# Altium integrated library Capacitor - Tantalum.IntLib: 113 symbols (part 2 of 2)
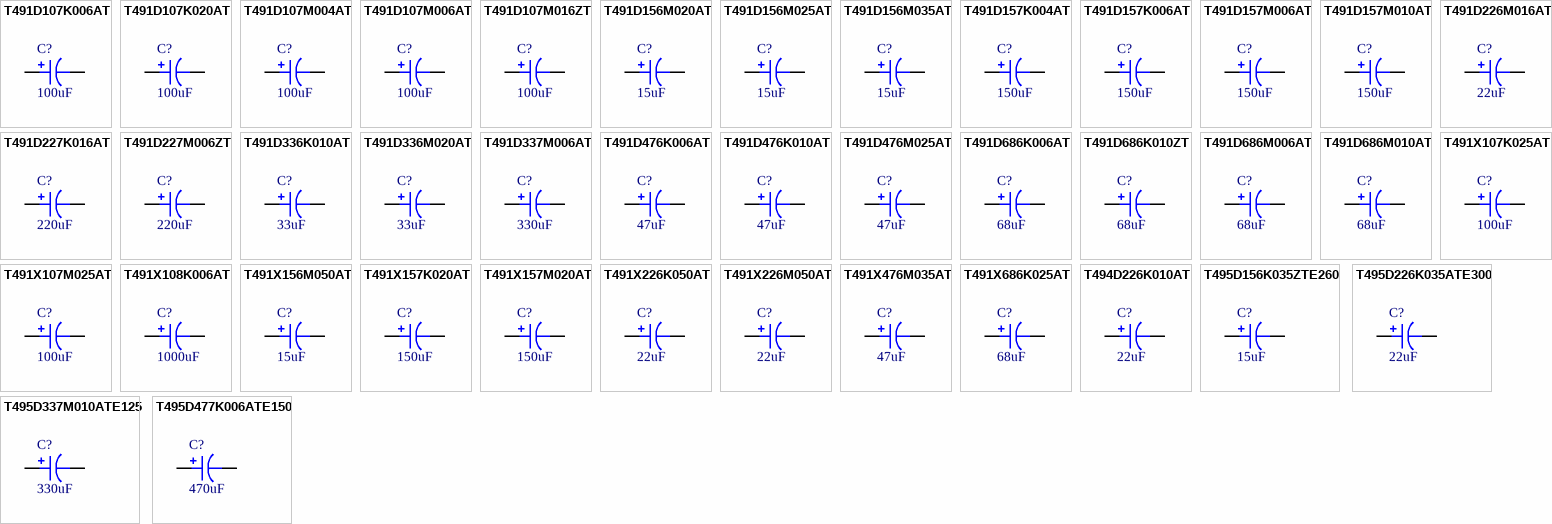
[diagram p3: symbols T491D107K006AT to T495D477K006ATE150]

## T495D156K035ZTE260
designator C?, comment 15uF
CAP TANT 15UF 35V 10% 2917; Part Number: T495D156K035ZTE260; Manufacturer: Kemet; TemperatureRange: -55C ~ 125C; Type: General Purpose; Value: 15uF; PartId: 6901; Supplier 1: Digi-Key; Supplier Part Number 1: 495-1580-2-ND; ComponentLink1Description: Datasheet; ComponentLink1URL: http://www.kemet.com/docfinder?Partnumber=T495D156K025AHE275; ComponentLink2Description: Digi-Key listing; ComponentLink2URL: http://digikey.com/product-detail/en/T495D156K035ZTE260/495-1580-2-ND/672344; Tolerance: 10%; Voltage: 35V; Price: 0.509; Device Package: 2917 (7343 Metric)
footprint CAP POL 2917/7343
pins: 1, 2

## T495D226K035ATE300
designator C?, comment 22uF
CAP TANT 22UF 35V 10% 2917; Part Number: T495D226K035ATE300; Manufacturer: Kemet; TemperatureRange: -55C ~ 125C; Type: General Purpose; Value: 22uF; PartId: 6912; Supplier 1: Digi-Key; Supplier Part Number 1: 399-3880-2-ND; ComponentLink1Description: Datasheet; ComponentLink1URL: http://www.kemet.com/docfinder?Partnumber=T495D226K035ATE300; ComponentLink2Description: Digi-Key listing; ComponentLink2URL: http://digikey.com/product-detail/en/T495D226K035ATE300/399-3880-2-ND/818740; Tolerance: 10%; Voltage: 35V; Price: 0.6169; Device Package: 2917 (7343 Metric)
footprint CAP POL 2917/7343
pins: 1, 2

## T495D337M010ATE125
designator C?, comment 330uF
CAP TANT 330UF 10V 20% 2917; Part Number: T495D337M010ATE125; Manufacturer: Kemet; TemperatureRange: -55C ~ 125C; Type: General Purpose; Value: 330uF; PartId: 6937; Supplier 1: Digi-Key; Supplier Part Number 1: 399-9768-2-ND; ComponentLink1Description: Datasheet; ComponentLink1URL: http://www.kemet.com/docfinder?Partnumber=T495D337M010ATE100; ComponentLink2Description: Digi-Key listing; ComponentLink2URL: http://digikey.com/product-detail/en/T495D337M010ATE125/399-9768-2-ND/3724932; Tolerance: 20%; Voltage: 10V; Price: 1.1938; Device Package: 2917 (7343 Metric)
footprint CAP POL 2917/7343
pins: 1, 2

## T495D477K006ATE150
designator C?, comment 470uF
CAP TANT 470UF 10% 6.3V 2917; Part Number: T495D477K006ATE150; Manufacturer: Kemet; TemperatureRange: -55C ~ 125C; Type: General Purpose; Value: 470uF; PartId: 6938; Supplier 1: Digi-Key; Supplier Part Number 1: 399-11093-2-ND; ComponentLink1Description: Datasheet; ComponentLink1URL: http://www.kemet.com/docfinder?Partnumber=T495D477K006ATE150; ComponentLink2Description: Digi-Key listing; ComponentLink2URL: http://digikey.com/product-detail/en/T495D477K006ATE150/399-11093-2-ND/4309256; Tolerance: 10%; Voltage: 6.3V; Price: 1.2065; Device Package: 2917 (7343 Metric)
footprint CAP POL 2917/7343
pins: 1, 2

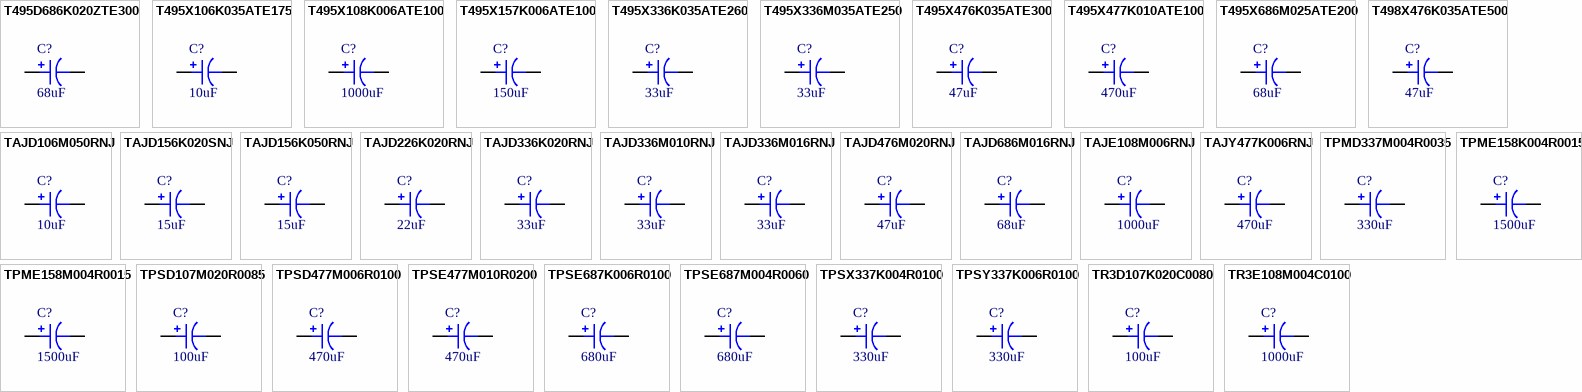
[diagram p2: symbols T495D686K020ZTE300 to TR3E108M004C0100]

## T495D686K020ZTE300
designator C?, comment 68uF
CAP TANT 68UF 20V 10% 2917; Part Number: T495D686K020ZTE300; Manufacturer: Kemet; TemperatureRange: -55C ~ 125C; Type: General Purpose; Value: 68uF; PartId: 6909; Supplier 1: Digi-Key; Supplier Part Number 1: 495-1561-2-ND; ComponentLink1Description: Datasheet; ComponentLink1URL: http://www.kemet.com/docfinder?Partnumber=T495D686K025ATE200; ComponentLink2Description: Digi-Key listing; ComponentLink2URL: http://digikey.com/product-detail/en/T495D686K020ZTE300/495-1561-2-ND/672325; Tolerance: 10%; Voltage: 20V; Price: 0.5938; Device Package: 2917 (7343 Metric)
footprint CAP POL 2917/7343
pins: 1, 2

## T495X106K035ATE175
designator C?, comment 10uF
CAP TANT 10UF 35V 10% 7343 SMD; Part Number: T495X106K035ATE175; Manufacturer: Kemet; TemperatureRange: -55C ~ 125C; Type: General Purpose; Value: 10uF; PartId: 6952; Supplier 1: Digi-Key; Supplier Part Number 1: 399-11390-2-ND; ComponentLink1Description: Datasheet; ComponentLink1URL: http://www.kemet.com/docfinder?Partnumber=T495X106K035ATE175; ComponentLink2Description: Digi-Key listing; ComponentLink2URL: http://digikey.com/product-detail/en/T495X106K035ATE175/399-11390-2-ND/4552933; Tolerance: 10%; Voltage: 35V; Price: 1.5123; Device Package: 2917 (7343 Metric)
footprint CAP POL 2917/7343
pins: 1, 2

## T495X108K006ATE100
designator C?, comment 1000uF
CAP TANT 1000UF 10% 6.3V 7343-43; Part Number: T495X108K006ATE100; Manufacturer: Kemet; TemperatureRange: -55C ~ 125C; Type: General Purpose; Value: 1000uF; PartId: 6968; Supplier 1: Digi-Key; Supplier Part Number 1: 399-11395-2-ND; ComponentLink1Description: Datasheet; ComponentLink1URL: http://www.kemet.com/docfinder?Partnumber=T495X108K006ATE100; ComponentLink2Description: Digi-Key listing; ComponentLink2URL: http://digikey.com/product-detail/en/T495X108K006ATE100/399-11395-2-ND/4692854; Tolerance: 10%; Voltage: 6.3V; Price: 3.189; Device Package: 2917 (7343 Metric)
footprint CAP POL 2917/7343
pins: 1, 2

## T495X157K006ATE100
designator C?, comment 150uF
CAP TANT 150UF 10% 6.3V 2917; Part Number: T495X157K006ATE100; Manufacturer: Kemet; TemperatureRange: -55C ~ 125C; Type: General Purpose; Value: 150uF; PartId: 6951; Supplier 1: Digi-Key; Supplier Part Number 1: 399-11099-2-ND; ComponentLink1Description: Datasheet; ComponentLink1URL: http://www.kemet.com/docfinder?Partnumber=T495X157K006ATE100; ComponentLink2Description: Digi-Key listing; ComponentLink2URL: http://digikey.com/product-detail/en/T495X157K006ATE100/399-11099-2-ND/4309260; Tolerance: 10%; Voltage: 6.3V; Price: 1.4728; Device Package: 2917 (7343 Metric)
footprint CAP POL 2917/7343
pins: 1, 2

## T495X336K035ATE260
designator C?, comment 33uF
CAP TANT 33UF 35V 10% 2917; Part Number: T495X336K035ATE260; Manufacturer: Kemet; TemperatureRange: -55C ~ 125C; Type: General Purpose; Value: 33uF; PartId: 6946; Supplier 1: Digi-Key; Supplier Part Number 1: 399-11104-2-ND; ComponentLink1Description: Datasheet; ComponentLink1URL: http://www.kemet.com/docfinder?Partnumber=T495X336K035ATE260; ComponentLink2Description: Digi-Key listing; ComponentLink2URL: http://digikey.com/product-detail/en/T495X336K035ATE260/399-11104-2-ND/4309264; Tolerance: 10%; Voltage: 35V; Price: 1.3253; Device Package: 2917 (7343 Metric)
footprint CAP POL 2917/7343
pins: 1, 2

## T495X336M035ATE250
designator C?, comment 33uF
CAP TANT 33UF 35V 20% 2917; Part Number: T495X336M035ATE250; Manufacturer: Kemet; TemperatureRange: -55C ~ 125C; Type: General Purpose; Value: 33uF; PartId: 6945; Supplier 1: Digi-Key; Supplier Part Number 1: 399-8539-2-ND; ComponentLink1Description: Datasheet; ComponentLink1URL: http://www.kemet.com/docfinder?Partnumber=T495X336M035ATE250; ComponentLink2Description: Digi-Key listing; ComponentLink2URL: http://digikey.com/product-detail/en/T495X336M035ATE250/399-8539-2-ND/2310038; Tolerance: 20%; Voltage: 35V; Price: 1.3253; Device Package: 2917 (7343 Metric)
footprint CAP POL 2917/7343
pins: 1, 2

## T495X476K035ATE300
designator C?, comment 47uF
CAP TANT 47UF 35V 10% 2917; Part Number: T495X476K035ATE300; Manufacturer: Kemet; TemperatureRange: -55C ~ 125C; Type: General Purpose; Value: 47uF; PartId: 6943; Supplier 1: Digi-Key; Supplier Part Number 1: 399-3905-2-ND; ComponentLink1Description: Datasheet; ComponentLink1URL: http://www.kemet.com/docfinder?Partnumber=T495X476K035ATE300; ComponentLink2Description: Digi-Key listing; ComponentLink2URL: http://digikey.com/product-detail/en/T495X476K035ATE300/399-3905-2-ND/818766; Tolerance: 10%; Voltage: 35V; Price: 1.3108; Device Package: 2917 (7343 Metric)
footprint CAP POL 2917/7343
pins: 1, 2

## T495X477K010ATE100
designator C?, comment 470uF
CAP TANT 470UF 10V 10% 2917; Part Number: T495X477K010ATE100; Manufacturer: Kemet; TemperatureRange: -55C ~ 125C; Type: General Purpose; Value: 470uF; PartId: 6950; Supplier 1: Digi-Key; Supplier Part Number 1: 399-10524-2-ND; ComponentLink1Description: Datasheet; ComponentLink1URL: http://www.kemet.com/Lists/ProductCatalog/Attachments/261/KEM_T2009_T495.pdf; ComponentLink2Description: Digi-Key listing; ComponentLink2URL: http://digikey.com/product-detail/en/T495X477K010ATE100/399-10524-2-ND/4176912; Tolerance: 10%; Voltage: 10V; Price: 1.3783; Device Package: 2917 (7343 Metric)
footprint CAP POL 2917/7343
pins: 1, 2

## T495X686M025ATE200
designator C?, comment 68uF
CAP TANT 68UF 25V 20% 2917; Part Number: T495X686M025ATE200; Manufacturer: Kemet; TemperatureRange: -55C ~ 125C; Type: General Purpose; Value: 68uF; PartId: 6948; Supplier 1: Digi-Key; Supplier Part Number 1: 399-10314-2-ND; ComponentLink1Description: Datasheet; ComponentLink1URL: http://www.kemet.com/docfinder?Partnumber=T495X686M025ATE200; ComponentLink2Description: Digi-Key listing; ComponentLink2URL: http://digikey.com/product-detail/en/T495X686M025ATE200/399-10314-2-ND/3760589; Tolerance: 20%; Voltage: 25V; Price: 1.3518; Device Package: 2917 (7343 Metric)
footprint CAP POL 2917/7343
pins: 1, 2

## T498X476K035ATE500
designator C?, comment 47uF
CAP TANT 47UF 35V 10% 7343-43; Part Number: T498X476K035ATE500; Manufacturer: Kemet; TemperatureRange: -55C ~ 150C; Type: General Purpose; Value: 47uF; PartId: 6959; Supplier 1: Digi-Key; Supplier Part Number 1: 399-11397-2-ND; ComponentLink1Description: Datasheet; ComponentLink1URL: http://www.kemet.com/Lists/ProductCatalog/Attachments/113/KEM_T2012_T498.pdf; ComponentLink2Description: Digi-Key listing; ComponentLink2URL: http://digikey.com/product-detail/en/T498X476K035ATE500/399-11397-2-ND/4692856; Tolerance: 10%; Voltage: 35V; Price: 2.1039; Device Package: 2917 (7343 Metric)
footprint CAP POL 2917/7343
pins: 1, 2

## TAJD106M050RNJ
designator C?, comment 10uF
CAP TANT 10UF 50V 20% 2917; Part Number: TAJD106M050RNJ; Manufacturer: AVX Corporation; TemperatureRange: -55C ~ 125C; Type: General Purpose; Value: 10uF; PartId: 6939; Supplier 1: Digi-Key; Supplier Part Number 1: 478-8906-2-ND; ComponentLink1Description: Datasheet; ComponentLink1URL: http://datasheets.avx.com/TAJ.pdf; ComponentLink2Description: Digi-Key listing; ComponentLink2URL: http://digikey.com/product-detail/en/TAJD106M050RNJ/478-8906-2-ND/1469971; Tolerance: 20%; Voltage: 50V; Price: 1.2392; Device Package: 2917 (7343 Metric)
footprint CAP POL 2917/7343
pins: 1, 2

## TAJD156K020SNJ
designator C?, comment 15uF
CAP TANT 15UF 20V 10% 2917; Part Number: TAJD156K020SNJ; Manufacturer: AVX Corporation; TemperatureRange: -55C ~ 125C; Type: General Purpose; Value: 15uF; PartId: 6906; Supplier 1: Digi-Key; Supplier Part Number 1: 478-8908-2-ND; ComponentLink1Description: Datasheet; ComponentLink1URL: http://datasheets.avx.com/TAJ.pdf; ComponentLink2Description: Digi-Key listing; ComponentLink2URL: http://digikey.com/product-detail/en/TAJD156K020SNJ/478-8908-2-ND/1470000; Tolerance: 10%; Voltage: 20V; Price: 0.5502; Device Package: 2917 (7343 Metric)
footprint CAP POL 2917/7343
pins: 1, 2

## TAJD156K050RNJ
designator C?, comment 15uF
CAP TANT 15UF 50V 10% 2917; Part Number: TAJD156K050RNJ; Manufacturer: AVX Corporation; TemperatureRange: -55C ~ 125C; Type: General Purpose; Value: 15uF; PartId: 6961; Supplier 1: Digi-Key; Supplier Part Number 1: 478-8909-2-ND; ComponentLink1Description: Datasheet; ComponentLink1URL: http://datasheets.avx.com/TAJ.pdf; ComponentLink2Description: Digi-Key listing; ComponentLink2URL: http://digikey.com/product-detail/en/TAJD156K050RNJ/478-8909-2-ND/1470003; Tolerance: 10%; Voltage: 50V; Price: 2.1546; Device Package: 2917 (7343 Metric)
footprint CAP POL 2917/7343
pins: 1, 2

## TAJD226K020RNJ
designator C?, comment 22uF
CAP TANT 22UF 20V 10% 2917; Part Number: TAJD226K020RNJ; Manufacturer: AVX Corporation; TemperatureRange: -55C ~ 125C; Type: General Purpose; Value: 22uF; PartId: 6867; Supplier 1: Digi-Key; Supplier Part Number 1: 478-3923-2-ND; ComponentLink1Description: Datasheet; ComponentLink1URL: http://datasheets.avx.com/TAJ.pdf; ComponentLink2Description: Digi-Key listing; ComponentLink2URL: http://digikey.com/product-detail/en/TAJD226K020RNJ/478-3923-2-ND/1126851; Tolerance: 10%; Voltage: 20V; Price: 0.3414; Device Package: 2917 (7343 Metric)
footprint CAP POL 2917/7343
pins: 1, 2

## TAJD336K020RNJ
designator C?, comment 33uF
CAP TANT 33UF 20V 10% 2917; Part Number: TAJD336K020RNJ; Manufacturer: AVX Corporation; TemperatureRange: -55C ~ 125C; Type: General Purpose; Value: 33uF; PartId: 6876; Supplier 1: Digi-Key; Supplier Part Number 1: 478-1734-2-ND; ComponentLink1Description: Datasheet; ComponentLink1URL: http://datasheets.avx.com/TAJ.pdf; ComponentLink2Description: Digi-Key listing; ComponentLink2URL: http://digikey.com/product-detail/en/TAJD336K020RNJ/478-1734-2-ND/563838; Tolerance: 10%; Voltage: 20V; Price: 0.4251; Device Package: 2917 (7343 Metric)
footprint CAP POL 2917/7343
pins: 1, 2

## TAJD336M010RNJ
designator C?, comment 33uF
CAP TANT 33UF 10V 20% 2917; Part Number: TAJD336M010RNJ; Manufacturer: AVX Corporation; TemperatureRange: -55C ~ 125C; Type: General Purpose; Value: 33uF; PartId: 6870; Supplier 1: Digi-Key; Supplier Part Number 1: 478-3047-2-ND; ComponentLink1Description: Datasheet; ComponentLink1URL: http://datasheets.avx.com/TAJ.pdf; ComponentLink2Description: Digi-Key listing; ComponentLink2URL: http://digikey.com/product-detail/en/TAJD336M010RNJ/478-3047-2-ND/808786; Tolerance: 20%; Voltage: 10V; Price: 0.3589; Device Package: 2917 (7343 Metric)
footprint CAP POL 2917/7343
pins: 1, 2

## TAJD336M016RNJ
designator C?, comment 33uF
CAP TANT 33UF 16V 20% 2917; Part Number: TAJD336M016RNJ; Manufacturer: AVX Corporation; TemperatureRange: -55C ~ 125C; Type: General Purpose; Value: 33uF; PartId: 6872; Supplier 1: Digi-Key; Supplier Part Number 1: 478-3931-2-ND; ComponentLink1Description: Datasheet; ComponentLink1URL: http://datasheets.avx.com/TAJ.pdf; ComponentLink2Description: Digi-Key listing; ComponentLink2URL: http://digikey.com/product-detail/en/TAJD336M016RNJ/478-3931-2-ND/1126859; Tolerance: 20%; Voltage: 16V; Price: 0.3652; Device Package: 2917 (7343 Metric)
footprint CAP POL 2917/7343
pins: 1, 2

## TAJD476M020RNJ
designator C?, comment 47uF
CAP TANT 47UF 20V 20% 2917; Part Number: TAJD476M020RNJ; Manufacturer: AVX Corporation; TemperatureRange: -55C ~ 125C; Type: General Purpose; Value: 47uF; PartId: 6898; Supplier 1: Digi-Key; Supplier Part Number 1: 478-5809-2-ND; ComponentLink1Description: Datasheet; ComponentLink1URL: http://datasheets.avx.com/TAJ.pdf; ComponentLink2Description: Digi-Key listing; ComponentLink2URL: http://digikey.com/product-detail/en/TAJD476M020RNJ/478-5809-2-ND/1470138; Tolerance: 20%; Voltage: 20V; Price: 0.4905; Device Package: 2917 (7343 Metric)
footprint CAP POL 2917/7343
pins: 1, 2

## TAJD686M016RNJ
designator C?, comment 68uF
CAP TANT 68UF 16V 20% 2917; Part Number: TAJD686M016RNJ; Manufacturer: AVX Corporation; TemperatureRange: -55C ~ 125C; Type: General Purpose; Value: 68uF; PartId: 6919; Supplier 1: Digi-Key; Supplier Part Number 1: 478-3943-2-ND; ComponentLink1Description: Datasheet; ComponentLink1URL: http://datasheets.avx.com/TAJ.pdf; ComponentLink2Description: Digi-Key listing; ComponentLink2URL: http://digikey.com/product-detail/en/TAJD686M016RNJ/478-3943-2-ND/1126871; Tolerance: 20%; Voltage: 16V; Price: 0.7803; Device Package: 2917 (7343 Metric)
footprint CAP POL 2917/7343
pins: 1, 2

## TAJE108M006RNJ
designator C?, comment 1000uF
CAP TANT 1000UF 6.3V 20% 2917; Part Number: TAJE108M006RNJ; Manufacturer: AVX Corporation; TemperatureRange: -55C ~ 125C; Type: General Purpose; Value: 1000uF; PartId: 6971; Supplier 1: Digi-Key; Supplier Part Number 1: 478-6133-2-ND; ComponentLink1Description: Datasheet; ComponentLink1URL: http://datasheets.avx.com/TAJ.pdf; ComponentLink2Description: Digi-Key listing; ComponentLink2URL: http://digikey.com/product-detail/en/TAJE108M006RNJ/478-6133-2-ND/2297210; Tolerance: 20%; Voltage: 6.3V; Price: 3.6919; Device Package: 2917 (7343 Metric)
footprint CAP POL 2917/7343
pins: 1, 2

## TAJY477K006RNJ
designator C?, comment 470uF
CAP TANT 470UF 6.3V 10% 2917; Part Number: TAJY477K006RNJ; Manufacturer: AVX Corporation; TemperatureRange: -55C ~ 125C; Type: General Purpose; Value: 470uF; PartId: 6927; Supplier 1: Digi-Key; Supplier Part Number 1: 478-4706-2-ND; ComponentLink1Description: Datasheet; ComponentLink1URL: http://datasheets.avx.com/TAJ_LOW_PROFILE.pdf; ComponentLink2Description: Digi-Key listing; ComponentLink2URL: http://digikey.com/product-detail/en/TAJY477K006RNJ/478-4706-2-ND/1783447; Tolerance: 10%; Voltage: 6.3V; Price: 0.8714; Device Package: 2917 (7343 Metric)
footprint CAP POL 2917/7343
pins: 1, 2

## TPMD337M004R0035
designator C?, comment 330uF
CAP TANT 330UF 4V 20% 2917; Part Number: TPMD337M004R0035; Manufacturer: AVX Corporation; TemperatureRange: -55C ~ 125C; Type: General Purpose; Value: 330uF; PartId: 6973; Supplier 1: Digi-Key; Supplier Part Number 1: 478-9016-2-ND; ComponentLink1Description: Datasheet; ComponentLink1URL: http://datasheets.avx.com/TPM.pdf; ComponentLink2Description: Digi-Key listing; ComponentLink2URL: http://digikey.com/product-detail/en/TPMD337M004R0035/478-9016-2-ND/3068556; Tolerance: 20%; Voltage: 4V; Price: 5.4235; Device Package: 2917 (7343 Metric)
footprint CAP POL 2917/7343
pins: 1, 2

## TPME158K004R0015
designator C?, comment 1500uF
CAP TANT 1500UF 4V 10% 2917; Part Number: TPME158K004R0015; Manufacturer: AVX Corporation; TemperatureRange: -55C ~ 125C; Type: General Purpose; Value: 1500uF; PartId: 6974; Supplier 1: Digi-Key; Supplier Part Number 1: 478-3625-2-ND; ComponentLink1Description: Datasheet; ComponentLink1URL: http://datasheets.avx.com/TPM.pdf; ComponentLink2Description: Digi-Key listing; ComponentLink2URL: http://digikey.com/product-detail/en/TPME158K004R0015/478-3625-2-ND/1026317; Tolerance: 10%; Voltage: 4V; Price: 6.2393; Device Package: 2917 (7343 Metric)
footprint CAP POL 2917/7343
pins: 1, 2

## TPME158M004R0015
designator C?, comment 1500uF
CAP TANT 1500UF 4V 20% 2917; Part Number: TPME158M004R0015; Manufacturer: AVX Corporation; TemperatureRange: -55C ~ 125C; Type: General Purpose; Value: 1500uF; PartId: 6975; Supplier 1: Digi-Key; Supplier Part Number 1: 478-3626-2-ND; ComponentLink1Description: Datasheet; ComponentLink1URL: http://datasheets.avx.com/TPM.pdf; ComponentLink2Description: Digi-Key listing; ComponentLink2URL: http://digikey.com/product-detail/en/TPME158M004R0015/478-3626-2-ND/1026318; Tolerance: 20%; Voltage: 4V; Price: 6.2393; Device Package: 2917 (7343 Metric)
footprint CAP POL 2917/7343
pins: 1, 2

## TPSD107M020R0085
designator C?, comment 100uF
CAP TANT 100UF 20V 20% 2917; Part Number: TPSD107M020R0085; Manufacturer: AVX Corporation; TemperatureRange: -55C ~ 125C; Type: General Purpose; Value: 100uF; PartId: 6932; Supplier 1: Digi-Key; Supplier Part Number 1: 478-6066-2-ND; ComponentLink1Description: Datasheet; ComponentLink1URL: http://datasheets.avx.com/tps.pdf; ComponentLink2Description: Digi-Key listing; ComponentLink2URL: http://digikey.com/product-detail/en/TPSD107M020R0085/478-6066-2-ND/1473072; Tolerance: 20%; Voltage: 20V; Price: 0.9656; Device Package: 2917 (7343 Metric)
footprint CAP POL 2917/7343
pins: 1, 2

## TPSD477M006R0100
designator C?, comment 470uF
CAP TANT 470UF 6.3V 20% 2917; Part Number: TPSD477M006R0100; Manufacturer: AVX Corporation; TemperatureRange: -55C ~ 125C; Type: General Purpose; Value: 470uF; PartId: 6931; Supplier 1: Digi-Key; Supplier Part Number 1: 478-1790-2-ND; ComponentLink1Description: Datasheet; ComponentLink1URL: http://datasheets.avx.com/tps.pdf; ComponentLink2Description: Digi-Key listing; ComponentLink2URL: http://digikey.com/product-detail/en/TPSD477M006R0100/478-1790-2-ND/563893; Tolerance: 20%; Voltage: 6.3V; Price: 0.9575; Device Package: 2917 (7343 Metric)
footprint CAP POL 2917/7343
pins: 1, 2

## TPSE477M010R0200
designator C?, comment 470uF
CAP TANT 470UF 10V 20% 2917; Part Number: TPSE477M010R0200; Manufacturer: AVX Corporation; TemperatureRange: -55C ~ 125C; Type: General Purpose; Value: 470uF; PartId: 6958; Supplier 1: Digi-Key; Supplier Part Number 1: 478-9255-2-ND; ComponentLink1Description: Datasheet; ComponentLink1URL: http://datasheets.avx.com/tps.pdf; ComponentLink2Description: Digi-Key listing; ComponentLink2URL: http://digikey.com/product-detail/en/TPSE477M010R0200/478-9255-2-ND/3068731; Tolerance: 20%; Voltage: 10V; Price: 2.0561; Device Package: 2917 (7343 Metric)
footprint CAP POL 2917/7343
pins: 1, 2

## TPSE687K006R0100
designator C?, comment 680uF
CAP TANT 680UF 6.3V 10% 2917; Part Number: TPSE687K006R0100; Manufacturer: AVX Corporation; TemperatureRange: -55C ~ 125C; Type: General Purpose; Value: 680uF; PartId: 6960; Supplier 1: Digi-Key; Supplier Part Number 1: 478-9259-2-ND; ComponentLink1Description: Datasheet; ComponentLink1URL: http://datasheets.avx.com/tps.pdf; ComponentLink2Description: Digi-Key listing; ComponentLink2URL: http://digikey.com/product-detail/en/TPSE687K006R0100/478-9259-2-ND/3068742; Tolerance: 10%; Voltage: 6.3V; Price: 2.1072; Device Package: 2917 (7343 Metric)
footprint CAP POL 2917/7343
pins: 1, 2

## TPSE687M004R0060
designator C?, comment 680uF
CAP TANT 680UF 4V 20% 2917; Part Number: TPSE687M004R0060; Manufacturer: AVX Corporation; TemperatureRange: -55C ~ 125C; Type: General Purpose; Value: 680uF; PartId: 6944; Supplier 1: Digi-Key; Supplier Part Number 1: 478-9260-2-ND; ComponentLink1Description: Datasheet; ComponentLink1URL: http://datasheets.avx.com/tps.pdf; ComponentLink2Description: Digi-Key listing; ComponentLink2URL: http://digikey.com/product-detail/en/TPSE687M004R0060/478-9260-2-ND/3068746; Tolerance: 20%; Voltage: 4V; Price: 1.3167; Device Package: 2917 (7343 Metric)
footprint CAP POL 2917/7343
pins: 1, 2

## TPSX337K004R0100
designator C?, comment 330uF
CAP TANT 330UF 4V 10% 2917; Part Number: TPSX337K004R0100; Manufacturer: AVX Corporation; TemperatureRange: -55C ~ 125C; Type: General Purpose; Value: 330uF; PartId: 6926; Supplier 1: Digi-Key; Supplier Part Number 1: 478-9298-2-ND; ComponentLink1Description: Datasheet; ComponentLink1URL: http://datasheets.avx.com/tps.pdf; ComponentLink2Description: Digi-Key listing; ComponentLink2URL: http://digikey.com/product-detail/en/TPSX337K004R0100/478-9298-2-ND/3068900; Tolerance: 10%; Voltage: 4V; Price: 0.852; Device Package: 2917 (7343 Metric)
footprint CAP POL 2917/7343
pins: 1, 2

## TPSY337K006R0100
designator C?, comment 330uF
CAP TANT 330UF 6.3V 10% 2917; Part Number: TPSY337K006R0100; Manufacturer: AVX Corporation; TemperatureRange: -55C ~ 125C; Type: General Purpose; Value: 330uF; PartId: 6920; Supplier 1: Digi-Key; Supplier Part Number 1: 478-4698-2-ND; ComponentLink1Description: Datasheet; ComponentLink1URL: http://datasheets.avx.com/tps.pdf; ComponentLink2Description: Digi-Key listing; ComponentLink2URL: http://digikey.com/product-detail/en/TPSY337K006R0100/478-4698-2-ND/1765932; Tolerance: 10%; Voltage: 6.3V; Price: 0.7881; Device Package: 2917 (7343 Metric)
footprint CAP POL 2917/7343
pins: 1, 2

## TR3D107K020C0080
designator C?, comment 100uF
CAP TANT 100UF 20V 10% 2917; Part Number: TR3D107K020C0080; Manufacturer: Vishay Sprague; TemperatureRange: -55C ~ 125C; Type: General Purpose; Value: 100uF; PartId: 6928; Supplier 1: Digi-Key; Supplier Part Number 1: 718-1774-2-ND; ComponentLink1Description: Datasheet; ComponentLink1URL: http://www.vishay.com/docs/40080/tr3.pdf; ComponentLink2Description: Digi-Key listing; ComponentLink2URL: http://digikey.com/product-detail/en/TR3D107K020C0080/718-1774-2-ND/2259931; Tolerance: 10%; Voltage: 20V; Price: 0.9225; Device Package: 2917 (7343 Metric)
footprint CAP POL 2917/7343
pins: 1, 2

## TR3E108M004C0100
designator C?, comment 1000uF
CAP TANT 1000UF 4V 20% 2917; Part Number: TR3E108M004C0100; Manufacturer: Vishay Sprague; TemperatureRange: -55C ~ 125C; Type: General Purpose; Value: 1000uF; PartId: 6966; Supplier 1: Digi-Key; Supplier Part Number 1: 718-1452-2-ND; ComponentLink1Description: Datasheet; ComponentLink1URL: http://www.vishay.com/docs/40080/tr3.pdf; ComponentLink2Description: Digi-Key listing; ComponentLink2URL: http://digikey.com/product-detail/en/TR3E108M004C0100/718-1452-2-ND/1859775; Tolerance: 20%; Voltage: 4V; Price: 2.6882; Device Package: 2917 (7343 Metric)
footprint CAP POL 2917/7343
pins: 1, 2